# EAGLE library part A99002-025 (library A99002-025)
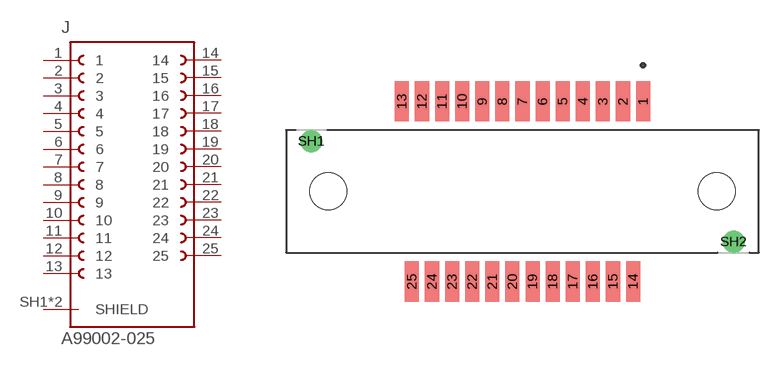
[diagram p0: symbol with the pads of OMNETICS_A99002-025; footprint OMNETICS_A99002-025]

Designator prefix J

## A99002-025 (CREATOR: DIZAR; MANUFACTURER: Omnetics; MAXIMUM_PACKAGE_HEIGHT: 12.65mm; PARTREV: A; STANDARD: Manufacturer Recommendations)  [OMNETICS_A99002-025]
1  1  pas
2  2  pas
3  3  pas
4  4  pas
5  5  pas
6  6  pas
7  7  pas
8  8  pas
9  9  pas
10  10  pas
11  11  pas
12  12  pas
13  13  pas
14  14  pas
15  15  pas
16  16  pas
17  17  pas
18  18  pas
19  19  pas
20  20  pas
21  21  pas
22  22  pas
23  23  pas
24  24  pas
25  25  pas
SH1  SHIELD  pas
SH2  SHIELD  pas

## Footprint OMNETICS_A99002-025 (pad centres in mm)
smd 0.889 x 2.54: 1 7.62,5.69; 2 6.35,5.69; 3 5.08,5.69; 4 3.81,5.69; 5 2.54,5.69; 6 1.27,5.69; 7 0,5.69; 8 -1.27,5.69; 9 -2.54,5.69; 10 -3.81,5.69; 11 -5.08,5.69; 12 -6.35,5.69; 13 -7.62,5.69; 14 6.985,-5.69; 15 5.715,-5.69; 16 4.445,-5.69; 17 3.175,-5.69; 18 1.905,-5.69; 19 0.635,-5.69; 20 -0.635,-5.69; 21 -1.905,-5.69; 22 -3.175,-5.69; 23 -4.445,-5.69; 24 -5.715,-5.69; 25 -6.985,-5.69
drill 0.889: SH1 -13.335,3.175; SH2 13.335,-3.175
hole 2.337 at -12.255,0
hole 2.337 at 12.255,0